# Altium footprint library Atmegas.PcbLib: 21 footprints (part 2 of 2)
Each footprint in its own frame and in the unit in brackets; x right, y up, seen from the top. Pads: shape width x height; smd on the part's side, far side on the other; paste and mask are expansions set on the pad; w line width, h text height; cw(c..) or ccw(c..) is an arc to the next point about the centre after c.
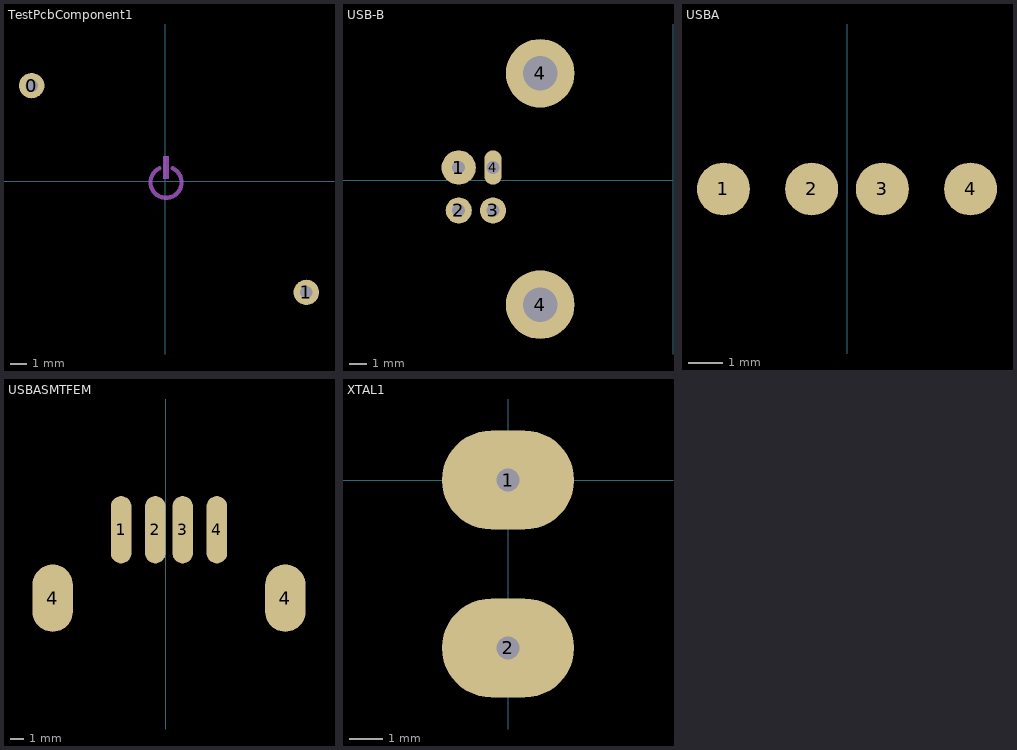
[diagram p1: the footprints below, top view; thin cyan lines are the x and y axes]

## TestPcbComponent1 [mil]
pads (2):
  round 60 hole 30: 0(-315.94,225.79) 1(333.66,-263.19)
Mechanical 1:
  rectangle: -4.92,4.92 8.86,59.06
  lines w10: -13.69,30.32 ccw(c1.97,-2.95) 17.63,30.32
3D body "5MM LED RED.step": height 338.58, standoff -196.85, extent -105.31,-95.47 95.47,105.31
3D body "usb-b.step": height 0, standoff -673.23, extent -315.94,-263.19 333.66,225.79
3D body "METAL FILM RESISTOR.step": height 421.26, standoff -338.58, extent -106.3,146.65 147.64,237.2
3D body "TQFP-44.STEP": height 43.31, standoff 0, extent -220.47,-217.52 251.97,254.92

## USB-B [mm] "ETF USB port type B"
pads (6):
  round 2 hole 0.762: 1(-12.5,0.75)
  round 1.524 hole 0.762: 2(-12.5,-1.75) 3(-10.5,-1.75)
  oval 1x2 hole 0.762: 4(-10.5,0.75)
  round 4 hole 2: 4(-7.75,-7.25) 4(-7.75,6.25)
3D body "usb-b2.stp": height 11.28, standoff -2.72, extent -14,-7.849 2.5,6.75

## USBA [mil]
pads (4):
  round 60 all layers, no hole: 1(-140,250) 2(-40,250) 3(40,250) 4(140,250)
3D body "USB-A.stp": height 300.2, standoff -147.3, extent -319.53,-306.85 319.53,290

## USBASMTFEM [mm]
pads (6):
  oval 1.524x5 smd: 1(-3.302,15.24) 2(-0.762,15.24) 3(1.27,15.24) 4(3.81,15.24)
  oval 3x5 smd: 4(-8.382,10.16) 4(8.89,10.16)
3D body "usbasmt.step": height 7.61, standoff -1.18, extent -8.376,0.08 8.884,15.24

## XTAL1 [mm] "Cristal Oscillator ETF"
height 10
pads (2):
  oval 4x3 hole 0.7: 1(0,0) 2(0,-5.08)
3D body "XTAL1.step": height 11.68, standoff -2.54, extent -1.524,-7.874 1.524,2.794